# Altium integrated library Analog Devices Data Converters Digital-to-Analog Converters.IntLib: 2231 symbols (part 37 of 181)
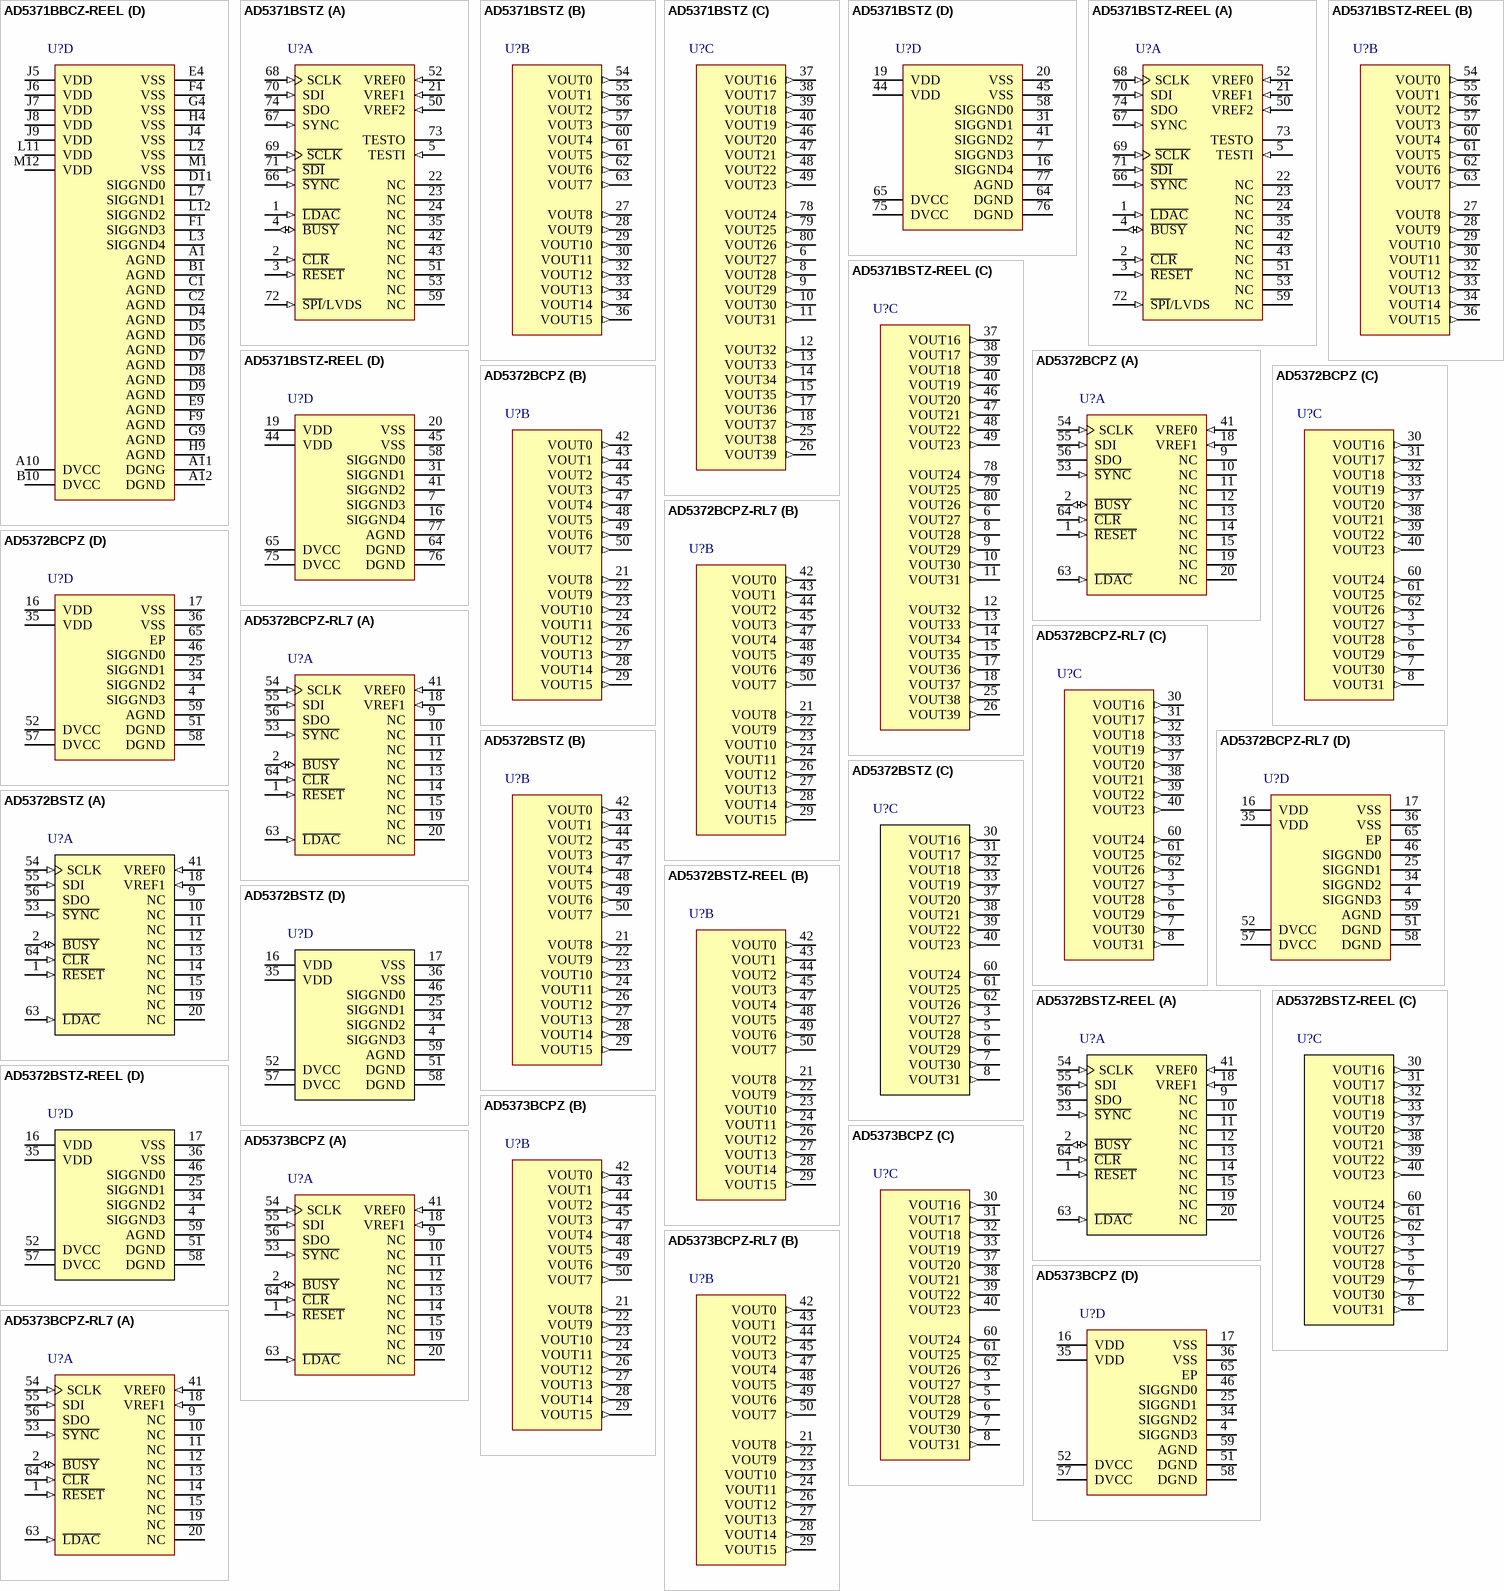
[diagram p150: symbols AD5371BBCZ-REEL to AD5373BCPZ-RL7]

## AD5373BCPZ
designator U?
14-Bit Voltage Output Digital-to-Analog Converter with Serial Interface, -40 to +85 degC, CP-64-3, Pb-Free, Tray; Generic Part Number: AD5373; Manufacturer: Analog Devices; PartNumber: AD5373BCPZ; # DAC Outputs: 32; Max V+: 16.5V; Op Pwr Diss: 520mW; Resolution (Bits): 14; Settling Time: 20µs; Single Supply: No; DatasheetVersion: Rev.C; PackageVersion: 051007-C; PackageReference: CP-64-3; PackageDescription: 64-Lead Lead Frame Chip Scale Package [LFCSP_VQ] 9 x 9 mm Body, Very Thin Quad; Supplier 1: Mouser; Supplier Part Number 1: 584-AD5373BCPZ; Packing: Tray; RoHS: Y; Mounting Technology: Surface Mount; Code_JEDEC: MO-220-VMMD-4; ComponentLink1Description: Manufacturer URL; ComponentLink1URL: http://www.analog.com/en/index.html; ComponentLink2Description: Datasheet; ComponentLink2URL: http://www.analog.com/static/imported-files/data_sheets/AD5372_5373.pdf; ComponentLink3Description: Package Specification; ComponentLink3URL: http://www.analog.com/static/imported-files/packages/PKG_PDF/LFCSP(CP)/CP_64_3.pdf; ComponentLink4Description: Product URL; ComponentLink4URL: http://www.analog.com/en/digital-to-analog-converters/da-converters/ad5373/products/product.html
footprint CP-64-3_N (QFN, 64-Leads, Body 9x9mm, Pitch 0.5mm, Thermal Pad 7.1x7.1mm, IPC Medium Density)
footprint CP-64-3_L (QFN, 64-Leads, Body 9x9mm, Pitch 0.5mm, Thermal Pad 7.1x7.1mm, IPC High Density)
footprint CP-64-3_M (QFN, 64-Leads, Body 9x9mm, Pitch 0.5mm, Thermal Pad 7.1x7.1mm, IPC Low Density)
part A pins: 1 ~{RESET} (in) "Digital Reset Input.", 2 ~{BUSY} (io) "Digital Input/Open-Drain Output. B\U\S\Y\ is open drain when an output. See the B\U\S\Y\ and L\D\A\C\ Functions section for more information.", 9 NC "No Connect.", 10 NC "No Connect.", 11 NC "No Connect.", 12 NC "No Connect.", 13 NC "No Connect.", 14 NC "No Connect.", 15 NC "No Connect.", 18 VREF1 (in) "Reference Input for DAC 8 to DAC 31. This reference voltage is referred to AGND.", 19 NC "No Connect.", 20 NC "No Connect.", 41 VREF0 (in) "Reference Input for DAC 0 to DAC 7. This reference voltage is referred to AGND.", 53 ~{SYNC} (in) "Active Low Input. This is the frame synchronization signal for the serial interface.", 54 SCLK (in) "Serial Clock Input. Data is clocked into the shift register on the falling edge of SCLK. This pin operates at clock speeds up to 50 MHz.", 55 SDI (in) "Serial Data Input. Data must be valid on the falling edge of SCLK.", 56 SDO (hiz) "Serial Data Output. CMOS output. SDO can be used for readback. Data is clocked out on SDO on the rising edge of SCLK and is valid on the falling edge of SCLK.", 63 ~{LDAC} (in) "Load DAC Logic Input (Active Low). See the B\U\S\Y\ and L\D\A\C\ Functions section for more information.", 64 ~{CLR} (in) "Asynchronous Clear Input (Level Sensitive, Active Low). See the Clear Function section for more information."
part B pins: 21 VOUT8 (out) "DAC Output. Buffered analog outputs for each of the 32 DAC channels. Each analog output is capable of driving an output load of 10 kohm to ground. Typical output impedance of these amplifiers is 0.5 ohm.", 22 VOUT9 (out) "DAC Output. Buffered analog outputs for each of the 32 DAC channels. Each analog output is capable of driving an output load of 10 kohm to ground. Typical output impedance of these amplifiers is 0.5 ohm.", 23 VOUT10 (out) "DAC Output. Buffered analog outputs for each of the 32 DAC channels. Each analog output is capable of driving an output load of 10 kohm to ground. Typical output impedance of these amplifiers is 0.5 ohm.", 24 VOUT11 (out) "DAC Output. Buffered analog outputs for each of the 32 DAC channels. Each analog output is capable of driving an output load of 10 kohm to ground. Typical output impedance of these amplifiers is 0.5 ohm.", 26 VOUT12 (out) "DAC Output. Buffered analog outputs for each of the 32 DAC channels. Each analog output is capable of driving an output load of 10 kohm to ground. Typical output impedance of these amplifiers is 0.5 ohm.", 27 VOUT13 (out) "DAC Output. Buffered analog outputs for each of the 32 DAC channels. Each analog output is capable of driving an output load of 10 kohm to ground. Typical output impedance of these amplifiers is 0.5 ohm.", 28 VOUT14 (out) "DAC Output. Buffered analog outputs for each of the 32 DAC channels. Each analog output is capable of driving an output load of 10 kohm to ground. Typical output impedance of these amplifiers is 0.5 ohm.", 29 VOUT15 (out) "DAC Output. Buffered analog outputs for each of the 32 DAC channels. Each analog output is capable of driving an output load of 10 kohm to ground. Typical output impedance of these amplifiers is 0.5 ohm.", 42 VOUT0 (out) "DAC Output. Buffered analog outputs for each of the 32 DAC channels. Each analog output is capable of driving an output load of 10 kohm to ground. Typical output impedance of these amplifiers is 0.5 ohm.", 43 VOUT1 (out) "DAC Output. Buffered analog outputs for each of the 32 DAC channels. Each analog output is capable of driving an output load of 10 kohm to ground. Typical output impedance of these amplifiers is 0.5 ohm.", 44 VOUT2 (out) "DAC Output. Buffered analog outputs for each of the 32 DAC channels. Each analog output is capable of driving an output load of 10 kohm to ground. Typical output impedance of these amplifiers is 0.5 ohm.", 45 VOUT3 (out) "DAC Output. Buffered analog outputs for each of the 32 DAC channels. Each analog output is capable of driving an output load of 10 kohm to ground. Typical output impedance of these amplifiers is 0.5 ohm.", 47 VOUT4 (out) "DAC Output. Buffered analog outputs for each of the 32 DAC channels. Each analog output is capable of driving an output load of 10 kohm to ground. Typical output impedance of these amplifiers is 0.5 ohm.", 48 VOUT5 (out) "DAC Output. Buffered analog outputs for each of the 32 DAC channels. Each analog output is capable of driving an output load of 10 kohm to ground. Typical output impedance of these amplifiers is 0.5 ohm.", 49 VOUT6 (out) "DAC Output. Buffered analog outputs for each of the 32 DAC channels. Each analog output is capable of driving an output load of 10 kohm to ground. Typical output impedance of these amplifiers is 0.5 ohm.", 50 VOUT7 (out) "DAC Output. Buffered analog outputs for each of the 32 DAC channels. Each analog output is capable of driving an output load of 10 kohm to ground. Typical output impedance of these amplifiers is 0.5 ohm."
part C pins: 3 VOUT27 (out) "DAC Output. Buffered analog outputs for each of the 32 DAC channels. Each analog output is capable of driving an output load of 10 kohm to ground. Typical output impedance of these amplifiers is 0.5 ohm.", 5 VOUT28 (out) "DAC Output. Buffered analog outputs for each of the 32 DAC channels. Each analog output is capable of driving an output load of 10 kohm to ground. Typical output impedance of these amplifiers is 0.5 ohm.", 6 VOUT29 (out) "DAC Output. Buffered analog outputs for each of the 32 DAC channels. Each analog output is capable of driving an output load of 10 kohm to ground. Typical output impedance of these amplifiers is 0.5 ohm.", 7 VOUT30 (out) "DAC Output. Buffered analog outputs for each of the 32 DAC channels. Each analog output is capable of driving an output load of 10 kohm to ground. Typical output impedance of these amplifiers is 0.5 ohm.", 8 VOUT31 (out) "DAC Output. Buffered analog outputs for each of the 32 DAC channels. Each analog output is capable of driving an output load of 10 kohm to ground. Typical output impedance of these amplifiers is 0.5 ohm.", 30 VOUT16 (out) "DAC Output. Buffered analog outputs for each of the 32 DAC channels. Each analog output is capable of driving an output load of 10 kohm to ground. Typical output impedance of these amplifiers is 0.5 ohm.", 31 VOUT17 (out) "DAC Output. Buffered analog outputs for each of the 32 DAC channels. Each analog output is capable of driving an output load of 10 kohm to ground. Typical output impedance of these amplifiers is 0.5 ohm.", 32 VOUT18 (out) "DAC Output. Buffered analog outputs for each of the 32 DAC channels. Each analog output is capable of driving an output load of 10 kohm to ground. Typical output impedance of these amplifiers is 0.5 ohm.", 33 VOUT19 (out) "DAC Output. Buffered analog outputs for each of the 32 DAC channels. Each analog output is capable of driving an output load of 10 kohm to ground. Typical output impedance of these amplifiers is 0.5 ohm.", 37 VOUT20 (out) "DAC Output. Buffered analog outputs for each of the 32 DAC channels. Each analog output is capable of driving an output load of 10 kohm to ground. Typical output impedance of these amplifiers is 0.5 ohm.", 38 VOUT21 (out) "DAC Output. Buffered analog outputs for each of the 32 DAC channels. Each analog output is capable of driving an output load of 10 kohm to ground. Typical output impedance of these amplifiers is 0.5 ohm.", 39 VOUT22 (out) "DAC Output. Buffered analog outputs for each of the 32 DAC channels. Each analog output is capable of driving an output load of 10 kohm to ground. Typical output impedance of these amplifiers is 0.5 ohm.", 40 VOUT23 (out) "DAC Output. Buffered analog outputs for each of the 32 DAC channels. Each analog output is capable of driving an output load of 10 kohm to ground. Typical output impedance of these amplifiers is 0.5 ohm.", 60 VOUT24 (out) "DAC Output. Buffered analog outputs for each of the 32 DAC channels. Each analog output is capable of driving an output load of 10 kohm to ground. Typical output impedance of these amplifiers is 0.5 ohm.", 61 VOUT25 (out) "DAC Output. Buffered analog outputs for each of the 32 DAC channels. Each analog output is capable of driving an output load of 10 kohm to ground. Typical output impedance of these amplifiers is 0.5 ohm.", 62 VOUT26 (out) "DAC Output. Buffered analog outputs for each of the 32 DAC channels. Each analog output is capable of driving an output load of 10 kohm to ground. Typical output impedance of these amplifiers is 0.5 ohm."
part D pins: 4 SIGGND3 (power) "Reference Ground for DAC 24 to DAC 31. VOUT24 to VOUT31 are referenced to this voltage.", 16 VDD (power) "Positive Analog Power Supply; 9 V to 16.5 V for specified performance. These pins should be decoupled with 0.1 uF ceramic capacitors and 10 uF capacitors.", 17 VSS (power) "Negative Analog Power Supply; ?16.5 V to ?8 V for specified performance. These pins should be decoupled with 0.1 uF ceramic capacitors and 10 uF capacitors.", 25 SIGGND1 (power) "Reference Ground for DAC 8 to DAC 15. VOUT8 to VOUT15 are referenced to this voltage.", 34 SIGGND2 (power) "Reference Ground for DAC 16 to DAC 23. VOUT16 to VOUT23 are referenced to this voltage.", 35 VDD (power) "Positive Analog Power Supply; 9 V to 16.5 V for specified performance. These pins should be decoupled with 0.1 uF ceramic capacitors and 10 uF capacitors.", 36 VSS (power) "Negative Analog Power Supply; ?16.5 V to ?8 V for specified performance. These pins should be decoupled with 0.1 uF ceramic capacitors and 10 uF capacitors.", 46 SIGGND0 (power) "Reference Ground for DAC 0 to DAC 7. VOUT0 to VOUT7 are referenced to this voltage.", 51 DGND (power) "Ground for All Digital Circuitry. The DGND pins should be connected to the DGND plane.", 52 DVCC (power) "Logic Power Supply; 2.5 V to 5.5 V. These pins should be decoupled with 0.1 uF ceramic capacitors and 10 uF capacitors.", 57 DVCC (power) "Logic Power Supply; 2.5 V to 5.5 V. These pins should be decoupled with 0.1 uF ceramic capacitors and 10 uF capacitors.", 58 DGND (power) "Ground for All Digital Circuitry. The DGND pins should be connected to the DGND plane.", 59 AGND (power) "Ground for All Analog Circuitry. The AGND pin should be connected to the AGND plane.", 65 EP (power) "Exposed Pad. The lead frame chip scale package (LFCSP) has an exposed pad on the underside. Connected the exposed pad to VSS."

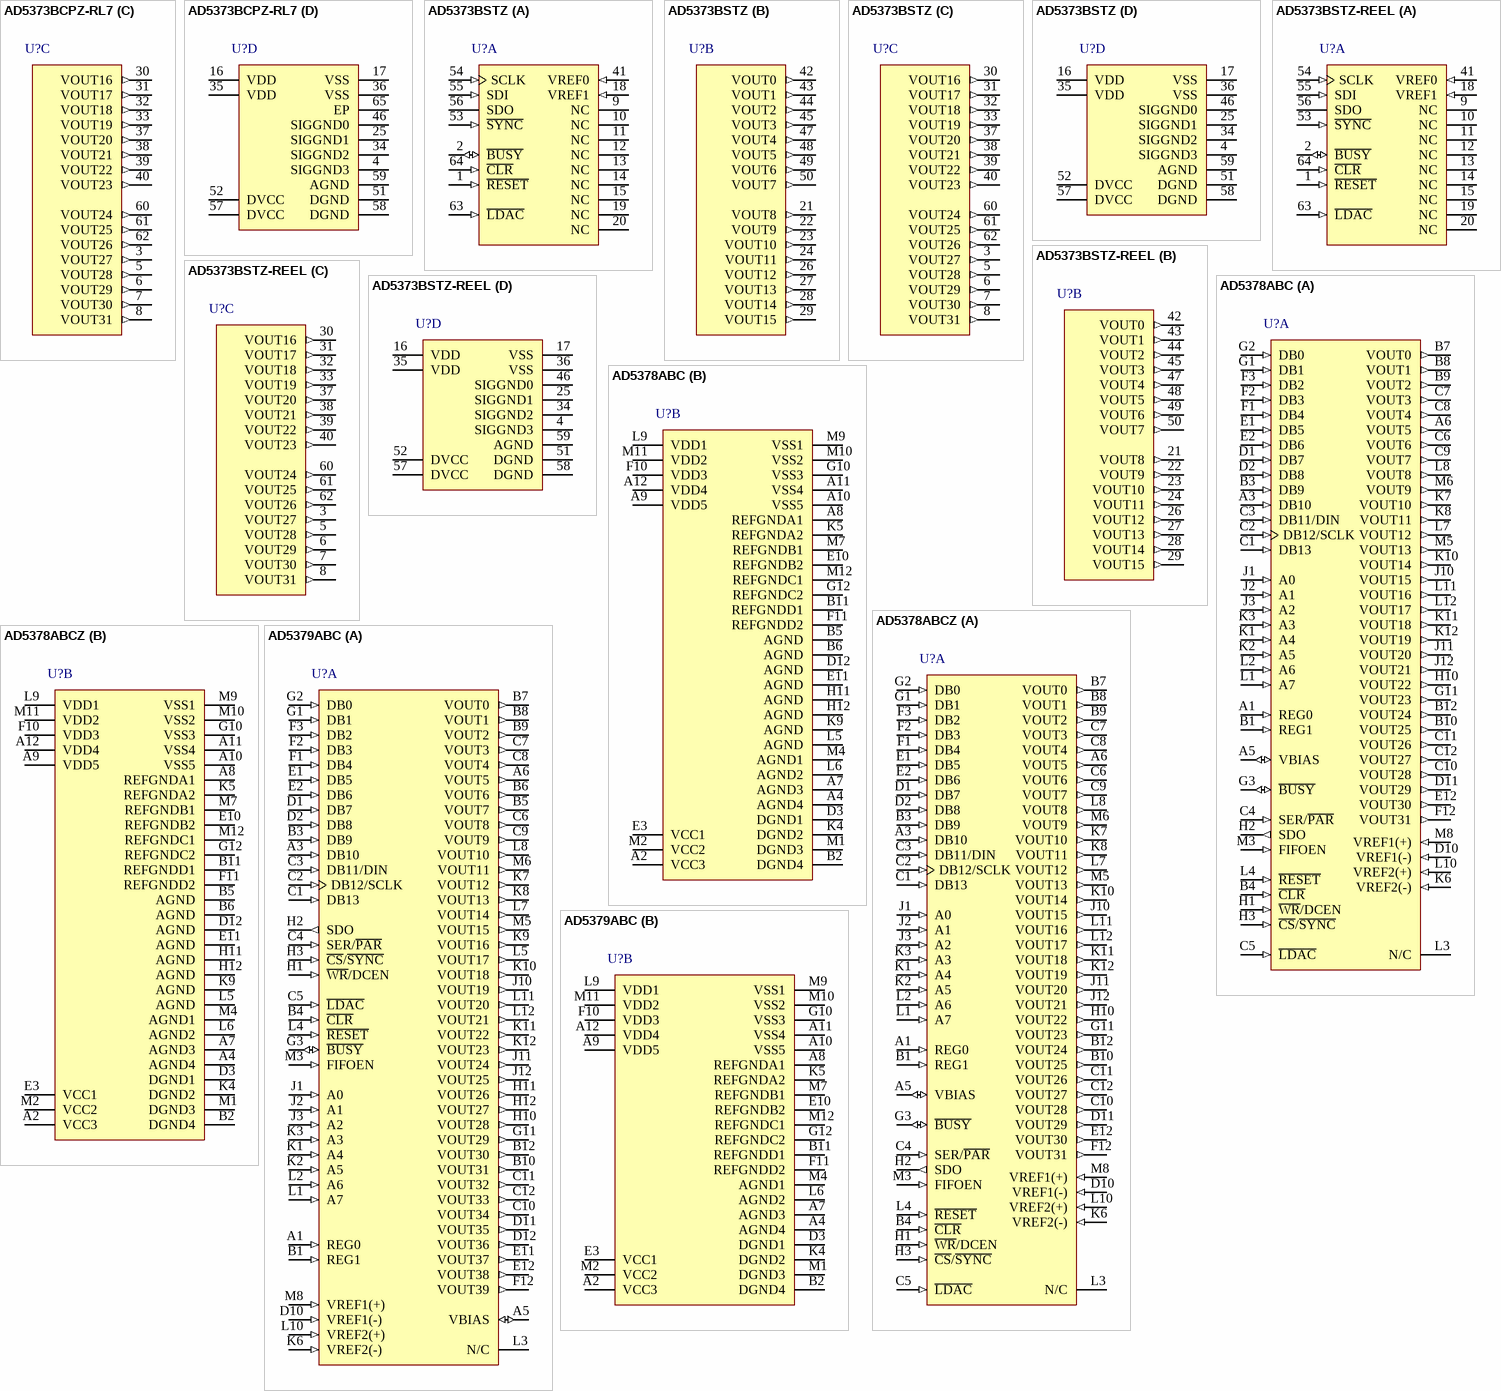
[diagram p22: symbols AD5373BCPZ-RL7 to AD5379ABC]

## AD5373BCPZ-RL7
designator U?
14-Bit Voltage Output Digital-to-Analog Converter with Serial Interface, -40 to +85 degC, CP-64-3, Pb-Free, Reel; Generic Part Number: AD5373; Manufacturer: Analog Devices; PartNumber: AD5373BCPZ-RL7; # DAC Outputs: 32; Max V+: 16.5V; Op Pwr Diss: 520mW; Resolution (Bits): 14; Settling Time: 20µs; Single Supply: No; DatasheetVersion: Rev.C; PackageVersion: 051007-C; PackageReference: CP-64-3; PackageDescription: 64-Lead Lead Frame Chip Scale Package [LFCSP_VQ] 9 x 9 mm Body, Very Thin Quad; Supplier 1: Mouser; Supplier Part Number 1: N/A; Packing: Reel; RoHS: Y; Mounting Technology: Surface Mount; Code_JEDEC: MO-220-VMMD-4; ComponentLink1Description: Manufacturer URL; ComponentLink1URL: http://www.analog.com/en/index.html; ComponentLink2Description: Datasheet; ComponentLink2URL: http://www.analog.com/static/imported-files/data_sheets/AD5372_5373.pdf; ComponentLink3Description: Package Specification; ComponentLink3URL: http://www.analog.com/static/imported-files/packages/PKG_PDF/LFCSP(CP)/CP_64_3.pdf; ComponentLink4Description: Product URL; ComponentLink4URL: http://www.analog.com/en/digital-to-analog-converters/da-converters/ad5373/products/product.html
footprint CP-64-3_N (QFN, 64-Leads, Body 9x9mm, Pitch 0.5mm, Thermal Pad 7.1x7.1mm, IPC Medium Density)
footprint CP-64-3_L (QFN, 64-Leads, Body 9x9mm, Pitch 0.5mm, Thermal Pad 7.1x7.1mm, IPC High Density)
footprint CP-64-3_M (QFN, 64-Leads, Body 9x9mm, Pitch 0.5mm, Thermal Pad 7.1x7.1mm, IPC Low Density)
part A pins: 1 ~{RESET} (in) "Digital Reset Input.", 2 ~{BUSY} (io) "Digital Input/Open-Drain Output. B\U\S\Y\ is open drain when an output. See the B\U\S\Y\ and L\D\A\C\ Functions section for more information.", 9 NC "No Connect.", 10 NC "No Connect.", 11 NC "No Connect.", 12 NC "No Connect.", 13 NC "No Connect.", 14 NC "No Connect.", 15 NC "No Connect.", 18 VREF1 (in) "Reference Input for DAC 8 to DAC 31. This reference voltage is referred to AGND.", 19 NC "No Connect.", 20 NC "No Connect.", 41 VREF0 (in) "Reference Input for DAC 0 to DAC 7. This reference voltage is referred to AGND.", 53 ~{SYNC} (in) "Active Low Input. This is the frame synchronization signal for the serial interface.", 54 SCLK (in) "Serial Clock Input. Data is clocked into the shift register on the falling edge of SCLK. This pin operates at clock speeds up to 50 MHz.", 55 SDI (in) "Serial Data Input. Data must be valid on the falling edge of SCLK.", 56 SDO (hiz) "Serial Data Output. CMOS output. SDO can be used for readback. Data is clocked out on SDO on the rising edge of SCLK and is valid on the falling edge of SCLK.", 63 ~{LDAC} (in) "Load DAC Logic Input (Active Low). See the B\U\S\Y\ and L\D\A\C\ Functions section for more information.", 64 ~{CLR} (in) "Asynchronous Clear Input (Level Sensitive, Active Low). See the Clear Function section for more information."
part B pins: 21 VOUT8 (out) "DAC Output. Buffered analog outputs for each of the 32 DAC channels. Each analog output is capable of driving an output load of 10 kohm to ground. Typical output impedance of these amplifiers is 0.5 ohm.", 22 VOUT9 (out) "DAC Output. Buffered analog outputs for each of the 32 DAC channels. Each analog output is capable of driving an output load of 10 kohm to ground. Typical output impedance of these amplifiers is 0.5 ohm.", 23 VOUT10 (out) "DAC Output. Buffered analog outputs for each of the 32 DAC channels. Each analog output is capable of driving an output load of 10 kohm to ground. Typical output impedance of these amplifiers is 0.5 ohm.", 24 VOUT11 (out) "DAC Output. Buffered analog outputs for each of the 32 DAC channels. Each analog output is capable of driving an output load of 10 kohm to ground. Typical output impedance of these amplifiers is 0.5 ohm.", 26 VOUT12 (out) "DAC Output. Buffered analog outputs for each of the 32 DAC channels. Each analog output is capable of driving an output load of 10 kohm to ground. Typical output impedance of these amplifiers is 0.5 ohm.", 27 VOUT13 (out) "DAC Output. Buffered analog outputs for each of the 32 DAC channels. Each analog output is capable of driving an output load of 10 kohm to ground. Typical output impedance of these amplifiers is 0.5 ohm.", 28 VOUT14 (out) "DAC Output. Buffered analog outputs for each of the 32 DAC channels. Each analog output is capable of driving an output load of 10 kohm to ground. Typical output impedance of these amplifiers is 0.5 ohm.", 29 VOUT15 (out) "DAC Output. Buffered analog outputs for each of the 32 DAC channels. Each analog output is capable of driving an output load of 10 kohm to ground. Typical output impedance of these amplifiers is 0.5 ohm.", 42 VOUT0 (out) "DAC Output. Buffered analog outputs for each of the 32 DAC channels. Each analog output is capable of driving an output load of 10 kohm to ground. Typical output impedance of these amplifiers is 0.5 ohm.", 43 VOUT1 (out) "DAC Output. Buffered analog outputs for each of the 32 DAC channels. Each analog output is capable of driving an output load of 10 kohm to ground. Typical output impedance of these amplifiers is 0.5 ohm.", 44 VOUT2 (out) "DAC Output. Buffered analog outputs for each of the 32 DAC channels. Each analog output is capable of driving an output load of 10 kohm to ground. Typical output impedance of these amplifiers is 0.5 ohm.", 45 VOUT3 (out) "DAC Output. Buffered analog outputs for each of the 32 DAC channels. Each analog output is capable of driving an output load of 10 kohm to ground. Typical output impedance of these amplifiers is 0.5 ohm.", 47 VOUT4 (out) "DAC Output. Buffered analog outputs for each of the 32 DAC channels. Each analog output is capable of driving an output load of 10 kohm to ground. Typical output impedance of these amplifiers is 0.5 ohm.", 48 VOUT5 (out) "DAC Output. Buffered analog outputs for each of the 32 DAC channels. Each analog output is capable of driving an output load of 10 kohm to ground. Typical output impedance of these amplifiers is 0.5 ohm.", 49 VOUT6 (out) "DAC Output. Buffered analog outputs for each of the 32 DAC channels. Each analog output is capable of driving an output load of 10 kohm to ground. Typical output impedance of these amplifiers is 0.5 ohm.", 50 VOUT7 (out) "DAC Output. Buffered analog outputs for each of the 32 DAC channels. Each analog output is capable of driving an output load of 10 kohm to ground. Typical output impedance of these amplifiers is 0.5 ohm."
part C pins: 3 VOUT27 (out) "DAC Output. Buffered analog outputs for each of the 32 DAC channels. Each analog output is capable of driving an output load of 10 kohm to ground. Typical output impedance of these amplifiers is 0.5 ohm.", 5 VOUT28 (out) "DAC Output. Buffered analog outputs for each of the 32 DAC channels. Each analog output is capable of driving an output load of 10 kohm to ground. Typical output impedance of these amplifiers is 0.5 ohm.", 6 VOUT29 (out) "DAC Output. Buffered analog outputs for each of the 32 DAC channels. Each analog output is capable of driving an output load of 10 kohm to ground. Typical output impedance of these amplifiers is 0.5 ohm.", 7 VOUT30 (out) "DAC Output. Buffered analog outputs for each of the 32 DAC channels. Each analog output is capable of driving an output load of 10 kohm to ground. Typical output impedance of these amplifiers is 0.5 ohm.", 8 VOUT31 (out) "DAC Output. Buffered analog outputs for each of the 32 DAC channels. Each analog output is capable of driving an output load of 10 kohm to ground. Typical output impedance of these amplifiers is 0.5 ohm.", 30 VOUT16 (out) "DAC Output. Buffered analog outputs for each of the 32 DAC channels. Each analog output is capable of driving an output load of 10 kohm to ground. Typical output impedance of these amplifiers is 0.5 ohm.", 31 VOUT17 (out) "DAC Output. Buffered analog outputs for each of the 32 DAC channels. Each analog output is capable of driving an output load of 10 kohm to ground. Typical output impedance of these amplifiers is 0.5 ohm.", 32 VOUT18 (out) "DAC Output. Buffered analog outputs for each of the 32 DAC channels. Each analog output is capable of driving an output load of 10 kohm to ground. Typical output impedance of these amplifiers is 0.5 ohm.", 33 VOUT19 (out) "DAC Output. Buffered analog outputs for each of the 32 DAC channels. Each analog output is capable of driving an output load of 10 kohm to ground. Typical output impedance of these amplifiers is 0.5 ohm.", 37 VOUT20 (out) "DAC Output. Buffered analog outputs for each of the 32 DAC channels. Each analog output is capable of driving an output load of 10 kohm to ground. Typical output impedance of these amplifiers is 0.5 ohm.", 38 VOUT21 (out) "DAC Output. Buffered analog outputs for each of the 32 DAC channels. Each analog output is capable of driving an output load of 10 kohm to ground. Typical output impedance of these amplifiers is 0.5 ohm.", 39 VOUT22 (out) "DAC Output. Buffered analog outputs for each of the 32 DAC channels. Each analog output is capable of driving an output load of 10 kohm to ground. Typical output impedance of these amplifiers is 0.5 ohm.", 40 VOUT23 (out) "DAC Output. Buffered analog outputs for each of the 32 DAC channels. Each analog output is capable of driving an output load of 10 kohm to ground. Typical output impedance of these amplifiers is 0.5 ohm.", 60 VOUT24 (out) "DAC Output. Buffered analog outputs for each of the 32 DAC channels. Each analog output is capable of driving an output load of 10 kohm to ground. Typical output impedance of these amplifiers is 0.5 ohm.", 61 VOUT25 (out) "DAC Output. Buffered analog outputs for each of the 32 DAC channels. Each analog output is capable of driving an output load of 10 kohm to ground. Typical output impedance of these amplifiers is 0.5 ohm.", 62 VOUT26 (out) "DAC Output. Buffered analog outputs for each of the 32 DAC channels. Each analog output is capable of driving an output load of 10 kohm to ground. Typical output impedance of these amplifiers is 0.5 ohm."
part D pins: 4 SIGGND3 (power) "Reference Ground for DAC 24 to DAC 31. VOUT24 to VOUT31 are referenced to this voltage.", 16 VDD (power) "Positive Analog Power Supply; 9 V to 16.5 V for specified performance. These pins should be decoupled with 0.1 uF ceramic capacitors and 10 uF capacitors.", 17 VSS (power) "Negative Analog Power Supply; ?16.5 V to ?8 V for specified performance. These pins should be decoupled with 0.1 uF ceramic capacitors and 10 uF capacitors.", 25 SIGGND1 (power) "Reference Ground for DAC 8 to DAC 15. VOUT8 to VOUT15 are referenced to this voltage.", 34 SIGGND2 (power) "Reference Ground for DAC 16 to DAC 23. VOUT16 to VOUT23 are referenced to this voltage.", 35 VDD (power) "Positive Analog Power Supply; 9 V to 16.5 V for specified performance. These pins should be decoupled with 0.1 uF ceramic capacitors and 10 uF capacitors.", 36 VSS (power) "Negative Analog Power Supply; ?16.5 V to ?8 V for specified performance. These pins should be decoupled with 0.1 uF ceramic capacitors and 10 uF capacitors.", 46 SIGGND0 (power) "Reference Ground for DAC 0 to DAC 7. VOUT0 to VOUT7 are referenced to this voltage.", 51 DGND (power) "Ground for All Digital Circuitry. The DGND pins should be connected to the DGND plane.", 52 DVCC (power) "Logic Power Supply; 2.5 V to 5.5 V. These pins should be decoupled with 0.1 uF ceramic capacitors and 10 uF capacitors.", 57 DVCC (power) "Logic Power Supply; 2.5 V to 5.5 V. These pins should be decoupled with 0.1 uF ceramic capacitors and 10 uF capacitors.", 58 DGND (power) "Ground for All Digital Circuitry. The DGND pins should be connected to the DGND plane.", 59 AGND (power) "Ground for All Analog Circuitry. The AGND pin should be connected to the AGND plane.", 65 EP (power) "Exposed Pad. The lead frame chip scale package (LFCSP) has an exposed pad on the underside. Connected the exposed pad to VSS."

## AD5373BSTZ
designator U?
14-Bit Voltage Output Digital-to-Analog Converter with Serial Interface, -40 to +85 degC, ST-64-2, Pb-Free, Tray; Generic Part Number: AD5373; Manufacturer: Analog Devices; PartNumber: AD5373BSTZ; # DAC Outputs: 32; Max V+: 16.5V; Op Pwr Diss: 520mW; Resolution (Bits): 14; Settling Time: 20µs; Single Supply: No; DatasheetVersion: Rev.C; PackageVersion: 051706-A; PackageReference: ST-64-2; PackageDescription: 64-Lead Low Profile Quad Flat Package [LQFP]; Supplier 1: Digi-Key; Supplier Part Number 1: AD5373BSTZ-ND; Supplier 2: Mouser; Supplier Part Number 2: 584-AD5373BSTZ; Packing: Tray; RoHS: Y; Mounting Technology: Surface Mount; Code_JEDEC: MS-026-BCD; ComponentLink1Description: Manufacturer URL; ComponentLink1URL: http://www.analog.com/en/index.html; ComponentLink2Description: Datasheet; ComponentLink2URL: http://www.analog.com/static/imported-files/data_sheets/AD5372_5373.pdf; ComponentLink3Description: Package Specification; ComponentLink3URL: http://www.analog.com/static/imported-files/packages/PKG_PDF/LQFP%28ST%29/ST_64_2.pdf; ComponentLink4Description: Product URL; ComponentLink4URL: http://www.analog.com/en/digital-to-analog-converters/da-converters/ad5373/products/product.html
footprint ST-64-2_N (Thin QFP, 64-Leads, Body 10x10mm, Pitch 0.5mm, IPC Medium Density)
footprint ST-64-2_L (Thin QFP, 64-Leads, Body 10x10mm, Pitch 0.5mm, IPC High Density)
footprint ST-64-2_M (Thin QFP, 64-Leads, Body 10x10mm, Pitch 0.5mm, IPC Low Density)
part A pins: 1 ~{RESET} (in) "Digital Reset Input.", 2 ~{BUSY} (io) "Digital Input/Open-Drain Output. B\U\S\Y\ is open drain when an output. See the B\U\S\Y\ and L\D\A\C\ Functions section for more information.", 9 NC "No Connect.", 10 NC "No Connect.", 11 NC "No Connect.", 12 NC "No Connect.", 13 NC "No Connect.", 14 NC "No Connect.", 15 NC "No Connect.", 18 VREF1 (in) "Reference Input for DAC 8 to DAC 31. This reference voltage is referred to AGND.", 19 NC "No Connect.", 20 NC "No Connect.", 41 VREF0 (in) "Reference Input for DAC 0 to DAC 7. This reference voltage is referred to AGND.", 53 ~{SYNC} (in) "Active Low Input. This is the frame synchronization signal for the serial interface.", 54 SCLK (in) "Serial Clock Input. Data is clocked into the shift register on the falling edge of SCLK. This pin operates at clock speeds up to 50 MHz.", 55 SDI (in) "Serial Data Input. Data must be valid on the falling edge of SCLK.", 56 SDO (hiz) "Serial Data Output. CMOS output. SDO can be used for readback. Data is clocked out on SDO on the rising edge of SCLK and is valid on the falling edge of SCLK.", 63 ~{LDAC} (in) "Load DAC Logic Input (Active Low). See the B\U\S\Y\ and L\D\A\C\ Functions section for more information.", 64 ~{CLR} (in) "Asynchronous Clear Input (Level Sensitive, Active Low). See the Clear Function section for more information."
part B pins: 21 VOUT8 (out) "DAC Output. Buffered analog outputs for each of the 32 DAC channels. Each analog output is capable of driving an output load of 10 kohm to ground. Typical output impedance of these amplifiers is 0.5 ohm.", 22 VOUT9 (out) "DAC Output. Buffered analog outputs for each of the 32 DAC channels. Each analog output is capable of driving an output load of 10 kohm to ground. Typical output impedance of these amplifiers is 0.5 ohm.", 23 VOUT10 (out) "DAC Output. Buffered analog outputs for each of the 32 DAC channels. Each analog output is capable of driving an output load of 10 kohm to ground. Typical output impedance of these amplifiers is 0.5 ohm.", 24 VOUT11 (out) "DAC Output. Buffered analog outputs for each of the 32 DAC channels. Each analog output is capable of driving an output load of 10 kohm to ground. Typical output impedance of these amplifiers is 0.5 ohm.", 26 VOUT12 (out) "DAC Output. Buffered analog outputs for each of the 32 DAC channels. Each analog output is capable of driving an output load of 10 kohm to ground. Typical output impedance of these amplifiers is 0.5 ohm.", 27 VOUT13 (out) "DAC Output. Buffered analog outputs for each of the 32 DAC channels. Each analog output is capable of driving an output load of 10 kohm to ground. Typical output impedance of these amplifiers is 0.5 ohm.", 28 VOUT14 (out) "DAC Output. Buffered analog outputs for each of the 32 DAC channels. Each analog output is capable of driving an output load of 10 kohm to ground. Typical output impedance of these amplifiers is 0.5 ohm.", 29 VOUT15 (out) "DAC Output. Buffered analog outputs for each of the 32 DAC channels. Each analog output is capable of driving an output load of 10 kohm to ground. Typical output impedance of these amplifiers is 0.5 ohm.", 42 VOUT0 (out) "DAC Output. Buffered analog outputs for each of the 32 DAC channels. Each analog output is capable of driving an output load of 10 kohm to ground. Typical output impedance of these amplifiers is 0.5 ohm.", 43 VOUT1 (out) "DAC Output. Buffered analog outputs for each of the 32 DAC channels. Each analog output is capable of driving an output load of 10 kohm to ground. Typical output impedance of these amplifiers is 0.5 ohm.", 44 VOUT2 (out) "DAC Output. Buffered analog outputs for each of the 32 DAC channels. Each analog output is capable of driving an output load of 10 kohm to ground. Typical output impedance of these amplifiers is 0.5 ohm.", 45 VOUT3 (out) "DAC Output. Buffered analog outputs for each of the 32 DAC channels. Each analog output is capable of driving an output load of 10 kohm to ground. Typical output impedance of these amplifiers is 0.5 ohm.", 47 VOUT4 (out) "DAC Output. Buffered analog outputs for each of the 32 DAC channels. Each analog output is capable of driving an output load of 10 kohm to ground. Typical output impedance of these amplifiers is 0.5 ohm.", 48 VOUT5 (out) "DAC Output. Buffered analog outputs for each of the 32 DAC channels. Each analog output is capable of driving an output load of 10 kohm to ground. Typical output impedance of these amplifiers is 0.5 ohm.", 49 VOUT6 (out) "DAC Output. Buffered analog outputs for each of the 32 DAC channels. Each analog output is capable of driving an output load of 10 kohm to ground. Typical output impedance of these amplifiers is 0.5 ohm.", 50 VOUT7 (out) "DAC Output. Buffered analog outputs for each of the 32 DAC channels. Each analog output is capable of driving an output load of 10 kohm to ground. Typical output impedance of these amplifiers is 0.5 ohm."
part C pins: 3 VOUT27 (out) "DAC Output. Buffered analog outputs for each of the 32 DAC channels. Each analog output is capable of driving an output load of 10 kohm to ground. Typical output impedance of these amplifiers is 0.5 ohm.", 5 VOUT28 (out) "DAC Output. Buffered analog outputs for each of the 32 DAC channels. Each analog output is capable of driving an output load of 10 kohm to ground. Typical output impedance of these amplifiers is 0.5 ohm.", 6 VOUT29 (out) "DAC Output. Buffered analog outputs for each of the 32 DAC channels. Each analog output is capable of driving an output load of 10 kohm to ground. Typical output impedance of these amplifiers is 0.5 ohm.", 7 VOUT30 (out) "DAC Output. Buffered analog outputs for each of the 32 DAC channels. Each analog output is capable of driving an output load of 10 kohm to ground. Typical output impedance of these amplifiers is 0.5 ohm.", 8 VOUT31 (out) "DAC Output. Buffered analog outputs for each of the 32 DAC channels. Each analog output is capable of driving an output load of 10 kohm to ground. Typical output impedance of these amplifiers is 0.5 ohm.", 30 VOUT16 (out) "DAC Output. Buffered analog outputs for each of the 32 DAC channels. Each analog output is capable of driving an output load of 10 kohm to ground. Typical output impedance of these amplifiers is 0.5 ohm.", 31 VOUT17 (out) "DAC Output. Buffered analog outputs for each of the 32 DAC channels. Each analog output is capable of driving an output load of 10 kohm to ground. Typical output impedance of these amplifiers is 0.5 ohm.", 32 VOUT18 (out) "DAC Output. Buffered analog outputs for each of the 32 DAC channels. Each analog output is capable of driving an output load of 10 kohm to ground. Typical output impedance of these amplifiers is 0.5 ohm.", 33 VOUT19 (out) "DAC Output. Buffered analog outputs for each of the 32 DAC channels. Each analog output is capable of driving an output load of 10 kohm to ground. Typical output impedance of these amplifiers is 0.5 ohm.", 37 VOUT20 (out) "DAC Output. Buffered analog outputs for each of the 32 DAC channels. Each analog output is capable of driving an output load of 10 kohm to ground. Typical output impedance of these amplifiers is 0.5 ohm.", 38 VOUT21 (out) "DAC Output. Buffered analog outputs for each of the 32 DAC channels. Each analog output is capable of driving an output load of 10 kohm to ground. Typical output impedance of these amplifiers is 0.5 ohm.", 39 VOUT22 (out) "DAC Output. Buffered analog outputs for each of the 32 DAC channels. Each analog output is capable of driving an output load of 10 kohm to ground. Typical output impedance of these amplifiers is 0.5 ohm.", 40 VOUT23 (out) "DAC Output. Buffered analog outputs for each of the 32 DAC channels. Each analog output is capable of driving an output load of 10 kohm to ground. Typical output impedance of these amplifiers is 0.5 ohm.", 60 VOUT24 (out) "DAC Output. Buffered analog outputs for each of the 32 DAC channels. Each analog output is capable of driving an output load of 10 kohm to ground. Typical output impedance of these amplifiers is 0.5 ohm.", 61 VOUT25 (out) "DAC Output. Buffered analog outputs for each of the 32 DAC channels. Each analog output is capable of driving an output load of 10 kohm to ground. Typical output impedance of these amplifiers is 0.5 ohm.", 62 VOUT26 (out) "DAC Output. Buffered analog outputs for each of the 32 DAC channels. Each analog output is capable of driving an output load of 10 kohm to ground. Typical output impedance of these amplifiers is 0.5 ohm."
part D pins: 4 SIGGND3 (power) "Reference Ground for DAC 24 to DAC 31. VOUT24 to VOUT31 are referenced to this voltage.", 16 VDD (power) "Positive Analog Power Supply; 9 V to 16.5 V for specified performance. These pins should be decoupled with 0.1 uF ceramic capacitors and 10 uF capacitors.", 17 VSS (power) "Negative Analog Power Supply; -16.5 V to -8 V for specified performance. These pins should be decoupled with 0.1 uF ceramic capacitors and 10 uF capacitors.", 25 SIGGND1 (power) "Reference Ground for DAC 8 to DAC 15. VOUT8 to VOUT15 are referenced to this voltage.", 34 SIGGND2 (power) "Reference Ground for DAC 16 to DAC 23. VOUT16 to VOUT23 are referenced to this voltage.", 35 VDD (power) "Positive Analog Power Supply; 9 V to 16.5 V for specified performance. These pins should be decoupled with 0.1 uF ceramic capacitors and 10 uF capacitors.", 36 VSS (power) "Negative Analog Power Supply; -16.5 V to -8 V for specified performance. These pins should be decoupled with 0.1 uF ceramic capacitors and 10 uF capacitors.", 46 SIGGND0 (power) "Reference Ground for DAC 0 to DAC 7. VOUT0 to VOUT7 are referenced to this voltage.", 51 DGND (power) "Ground for All Digital Circuitry. The DGND pins should be connected to the DGND plane.", 52 DVCC (power) "Logic Power Supply; 2.5 V to 5.5 V. These pins should be decoupled with 0.1 uF ceramic capacitors and 10 uF capacitors.", 57 DVCC (power) "Logic Power Supply; 2.5 V to 5.5 V. These pins should be decoupled with 0.1 uF ceramic capacitors and 10 uF capacitors.", 58 DGND (power) "Ground for All Digital Circuitry. The DGND pins should be connected to the DGND plane.", 59 AGND (power) "Ground for All Analog Circuitry. The AGND pin should be connected to the AGND plane."

## AD5373BSTZ-REEL
designator U?
14-Bit Voltage Output Digital-to-Analog Converter with Serial Interface, -40 to +85 degC, ST-64-2, Pb-Free, Reel; Generic Part Number: AD5373; Manufacturer: Analog Devices; PartNumber: AD5373BSTZ-REEL; # DAC Outputs: 32; Max V+: 16.5V; Op Pwr Diss: 520mW; Resolution (Bits): 14; Settling Time: 20µs; Single Supply: No; DatasheetVersion: Rev.C; PackageVersion: 051706-A; PackageReference: ST-64-2; PackageDescription: 64-Lead Low Profile Quad Flat Package [LQFP]; Supplier 1: Digi-Key; Supplier Part Number 1: AD5373BSTZ-REELTR-ND; Supplier 2: Digi-Key; Supplier Part Number 2: AD5373BSTZ-REELCT-ND; Supplier 3: Digi-Key; Supplier Part Number 3: AD5373BSTZ-REELDKR-ND; Supplier 4: Mouser; Supplier Part Number 4: 584-AD5373BSTZ-R; Packing: Reel; RoHS: Y; Mounting Technology: Surface Mount; Code_JEDEC: MS-026-BCD; ComponentLink1Description: Manufacturer URL; ComponentLink1URL: http://www.analog.com/en/index.html; ComponentLink2Description: Datasheet; ComponentLink2URL: http://www.analog.com/static/imported-files/data_sheets/AD5372_5373.pdf; ComponentLink3Description: Package Specification; ComponentLink3URL: http://www.analog.com/static/imported-files/packages/PKG_PDF/LQFP%28ST%29/ST_64_2.pdf; ComponentLink4Description: Product URL; ComponentLink4URL: http://www.analog.com/en/digital-to-analog-converters/da-converters/ad5373/products/product.html
footprint ST-64-2_N (Thin QFP, 64-Leads, Body 10x10mm, Pitch 0.5mm, IPC Medium Density)
footprint ST-64-2_L (Thin QFP, 64-Leads, Body 10x10mm, Pitch 0.5mm, IPC High Density)
footprint ST-64-2_M (Thin QFP, 64-Leads, Body 10x10mm, Pitch 0.5mm, IPC Low Density)
part A pins: 1 ~{RESET} (in) "Digital Reset Input.", 2 ~{BUSY} (io) "Digital Input/Open-Drain Output. B\U\S\Y\ is open drain when an output. See the B\U\S\Y\ and L\D\A\C\ Functions section for more information.", 9 NC "No Connect.", 10 NC "No Connect.", 11 NC "No Connect.", 12 NC "No Connect.", 13 NC "No Connect.", 14 NC "No Connect.", 15 NC "No Connect.", 18 VREF1 (in) "Reference Input for DAC 8 to DAC 31. This reference voltage is referred to AGND.", 19 NC "No Connect.", 20 NC "No Connect.", 41 VREF0 (in) "Reference Input for DAC 0 to DAC 7. This reference voltage is referred to AGND.", 53 ~{SYNC} (in) "Active Low Input. This is the frame synchronization signal for the serial interface.", 54 SCLK (in) "Serial Clock Input. Data is clocked into the shift register on the falling edge of SCLK. This pin operates at clock speeds up to 50 MHz.", 55 SDI (in) "Serial Data Input. Data must be valid on the falling edge of SCLK.", 56 SDO (hiz) "Serial Data Output. CMOS output. SDO can be used for readback. Data is clocked out on SDO on the rising edge of SCLK and is valid on the falling edge of SCLK.", 63 ~{LDAC} (in) "Load DAC Logic Input (Active Low). See the B\U\S\Y\ and L\D\A\C\ Functions section for more information.", 64 ~{CLR} (in) "Asynchronous Clear Input (Level Sensitive, Active Low). See the Clear Function section for more information."
part B pins: 21 VOUT8 (out) "DAC Output. Buffered analog outputs for each of the 32 DAC channels. Each analog output is capable of driving an output load of 10 kohm to ground. Typical output impedance of these amplifiers is 0.5 ohm.", 22 VOUT9 (out) "DAC Output. Buffered analog outputs for each of the 32 DAC channels. Each analog output is capable of driving an output load of 10 kohm to ground. Typical output impedance of these amplifiers is 0.5 ohm.", 23 VOUT10 (out) "DAC Output. Buffered analog outputs for each of the 32 DAC channels. Each analog output is capable of driving an output load of 10 kohm to ground. Typical output impedance of these amplifiers is 0.5 ohm.", 24 VOUT11 (out) "DAC Output. Buffered analog outputs for each of the 32 DAC channels. Each analog output is capable of driving an output load of 10 kohm to ground. Typical output impedance of these amplifiers is 0.5 ohm.", 26 VOUT12 (out) "DAC Output. Buffered analog outputs for each of the 32 DAC channels. Each analog output is capable of driving an output load of 10 kohm to ground. Typical output impedance of these amplifiers is 0.5 ohm.", 27 VOUT13 (out) "DAC Output. Buffered analog outputs for each of the 32 DAC channels. Each analog output is capable of driving an output load of 10 kohm to ground. Typical output impedance of these amplifiers is 0.5 ohm.", 28 VOUT14 (out) "DAC Output. Buffered analog outputs for each of the 32 DAC channels. Each analog output is capable of driving an output load of 10 kohm to ground. Typical output impedance of these amplifiers is 0.5 ohm.", 29 VOUT15 (out) "DAC Output. Buffered analog outputs for each of the 32 DAC channels. Each analog output is capable of driving an output load of 10 kohm to ground. Typical output impedance of these amplifiers is 0.5 ohm.", 42 VOUT0 (out) "DAC Output. Buffered analog outputs for each of the 32 DAC channels. Each analog output is capable of driving an output load of 10 kohm to ground. Typical output impedance of these amplifiers is 0.5 ohm.", 43 VOUT1 (out) "DAC Output. Buffered analog outputs for each of the 32 DAC channels. Each analog output is capable of driving an output load of 10 kohm to ground. Typical output impedance of these amplifiers is 0.5 ohm.", 44 VOUT2 (out) "DAC Output. Buffered analog outputs for each of the 32 DAC channels. Each analog output is capable of driving an output load of 10 kohm to ground. Typical output impedance of these amplifiers is 0.5 ohm.", 45 VOUT3 (out) "DAC Output. Buffered analog outputs for each of the 32 DAC channels. Each analog output is capable of driving an output load of 10 kohm to ground. Typical output impedance of these amplifiers is 0.5 ohm.", 47 VOUT4 (out) "DAC Output. Buffered analog outputs for each of the 32 DAC channels. Each analog output is capable of driving an output load of 10 kohm to ground. Typical output impedance of these amplifiers is 0.5 ohm.", 48 VOUT5 (out) "DAC Output. Buffered analog outputs for each of the 32 DAC channels. Each analog output is capable of driving an output load of 10 kohm to ground. Typical output impedance of these amplifiers is 0.5 ohm.", 49 VOUT6 (out) "DAC Output. Buffered analog outputs for each of the 32 DAC channels. Each analog output is capable of driving an output load of 10 kohm to ground. Typical output impedance of these amplifiers is 0.5 ohm.", 50 VOUT7 (out) "DAC Output. Buffered analog outputs for each of the 32 DAC channels. Each analog output is capable of driving an output load of 10 kohm to ground. Typical output impedance of these amplifiers is 0.5 ohm."
part C pins: 3 VOUT27 (out) "DAC Output. Buffered analog outputs for each of the 32 DAC channels. Each analog output is capable of driving an output load of 10 kohm to ground. Typical output impedance of these amplifiers is 0.5 ohm.", 5 VOUT28 (out) "DAC Output. Buffered analog outputs for each of the 32 DAC channels. Each analog output is capable of driving an output load of 10 kohm to ground. Typical output impedance of these amplifiers is 0.5 ohm.", 6 VOUT29 (out) "DAC Output. Buffered analog outputs for each of the 32 DAC channels. Each analog output is capable of driving an output load of 10 kohm to ground. Typical output impedance of these amplifiers is 0.5 ohm.", 7 VOUT30 (out) "DAC Output. Buffered analog outputs for each of the 32 DAC channels. Each analog output is capable of driving an output load of 10 kohm to ground. Typical output impedance of these amplifiers is 0.5 ohm.", 8 VOUT31 (out) "DAC Output. Buffered analog outputs for each of the 32 DAC channels. Each analog output is capable of driving an output load of 10 kohm to ground. Typical output impedance of these amplifiers is 0.5 ohm.", 30 VOUT16 (out) "DAC Output. Buffered analog outputs for each of the 32 DAC channels. Each analog output is capable of driving an output load of 10 kohm to ground. Typical output impedance of these amplifiers is 0.5 ohm.", 31 VOUT17 (out) "DAC Output. Buffered analog outputs for each of the 32 DAC channels. Each analog output is capable of driving an output load of 10 kohm to ground. Typical output impedance of these amplifiers is 0.5 ohm.", 32 VOUT18 (out) "DAC Output. Buffered analog outputs for each of the 32 DAC channels. Each analog output is capable of driving an output load of 10 kohm to ground. Typical output impedance of these amplifiers is 0.5 ohm.", 33 VOUT19 (out) "DAC Output. Buffered analog outputs for each of the 32 DAC channels. Each analog output is capable of driving an output load of 10 kohm to ground. Typical output impedance of these amplifiers is 0.5 ohm.", 37 VOUT20 (out) "DAC Output. Buffered analog outputs for each of the 32 DAC channels. Each analog output is capable of driving an output load of 10 kohm to ground. Typical output impedance of these amplifiers is 0.5 ohm.", 38 VOUT21 (out) "DAC Output. Buffered analog outputs for each of the 32 DAC channels. Each analog output is capable of driving an output load of 10 kohm to ground. Typical output impedance of these amplifiers is 0.5 ohm.", 39 VOUT22 (out) "DAC Output. Buffered analog outputs for each of the 32 DAC channels. Each analog output is capable of driving an output load of 10 kohm to ground. Typical output impedance of these amplifiers is 0.5 ohm.", 40 VOUT23 (out) "DAC Output. Buffered analog outputs for each of the 32 DAC channels. Each analog output is capable of driving an output load of 10 kohm to ground. Typical output impedance of these amplifiers is 0.5 ohm.", 60 VOUT24 (out) "DAC Output. Buffered analog outputs for each of the 32 DAC channels. Each analog output is capable of driving an output load of 10 kohm to ground. Typical output impedance of these amplifiers is 0.5 ohm.", 61 VOUT25 (out) "DAC Output. Buffered analog outputs for each of the 32 DAC channels. Each analog output is capable of driving an output load of 10 kohm to ground. Typical output impedance of these amplifiers is 0.5 ohm.", 62 VOUT26 (out) "DAC Output. Buffered analog outputs for each of the 32 DAC channels. Each analog output is capable of driving an output load of 10 kohm to ground. Typical output impedance of these amplifiers is 0.5 ohm."
part D pins: 4 SIGGND3 (power) "Reference Ground for DAC 24 to DAC 31. VOUT24 to VOUT31 are referenced to this voltage.", 16 VDD (power) "Positive Analog Power Supply; 9 V to 16.5 V for specified performance. These pins should be decoupled with 0.1 uF ceramic capacitors and 10 uF capacitors.", 17 VSS (power) "Negative Analog Power Supply; -16.5 V to -8 V for specified performance. These pins should be decoupled with 0.1 uF ceramic capacitors and 10 uF capacitors.", 25 SIGGND1 (power) "Reference Ground for DAC 8 to DAC 15. VOUT8 to VOUT15 are referenced to this voltage.", 34 SIGGND2 (power) "Reference Ground for DAC 16 to DAC 23. VOUT16 to VOUT23 are referenced to this voltage.", 35 VDD (power) "Positive Analog Power Supply; 9 V to 16.5 V for specified performance. These pins should be decoupled with 0.1 uF ceramic capacitors and 10 uF capacitors.", 36 VSS (power) "Negative Analog Power Supply; -16.5 V to -8 V for specified performance. These pins should be decoupled with 0.1 uF ceramic capacitors and 10 uF capacitors.", 46 SIGGND0 (power) "Reference Ground for DAC 0 to DAC 7. VOUT0 to VOUT7 are referenced to this voltage.", 51 DGND (power) "Ground for All Digital Circuitry. The DGND pins should be connected to the DGND plane.", 52 DVCC (power) "Logic Power Supply; 2.5 V to 5.5 V. These pins should be decoupled with 0.1 uF ceramic capacitors and 10 uF capacitors.", 57 DVCC (power) "Logic Power Supply; 2.5 V to 5.5 V. These pins should be decoupled with 0.1 uF ceramic capacitors and 10 uF capacitors.", 58 DGND (power) "Ground for All Digital Circuitry. The DGND pins should be connected to the DGND plane.", 59 AGND (power) "Ground for All Analog Circuitry. The AGND pin should be connected to the AGND plane."